# Altium schematic symbol library E_tactile_components.SCHLIB: 44 symbols
Pins are listed as number, name and electrical type; pins without a type are passive.

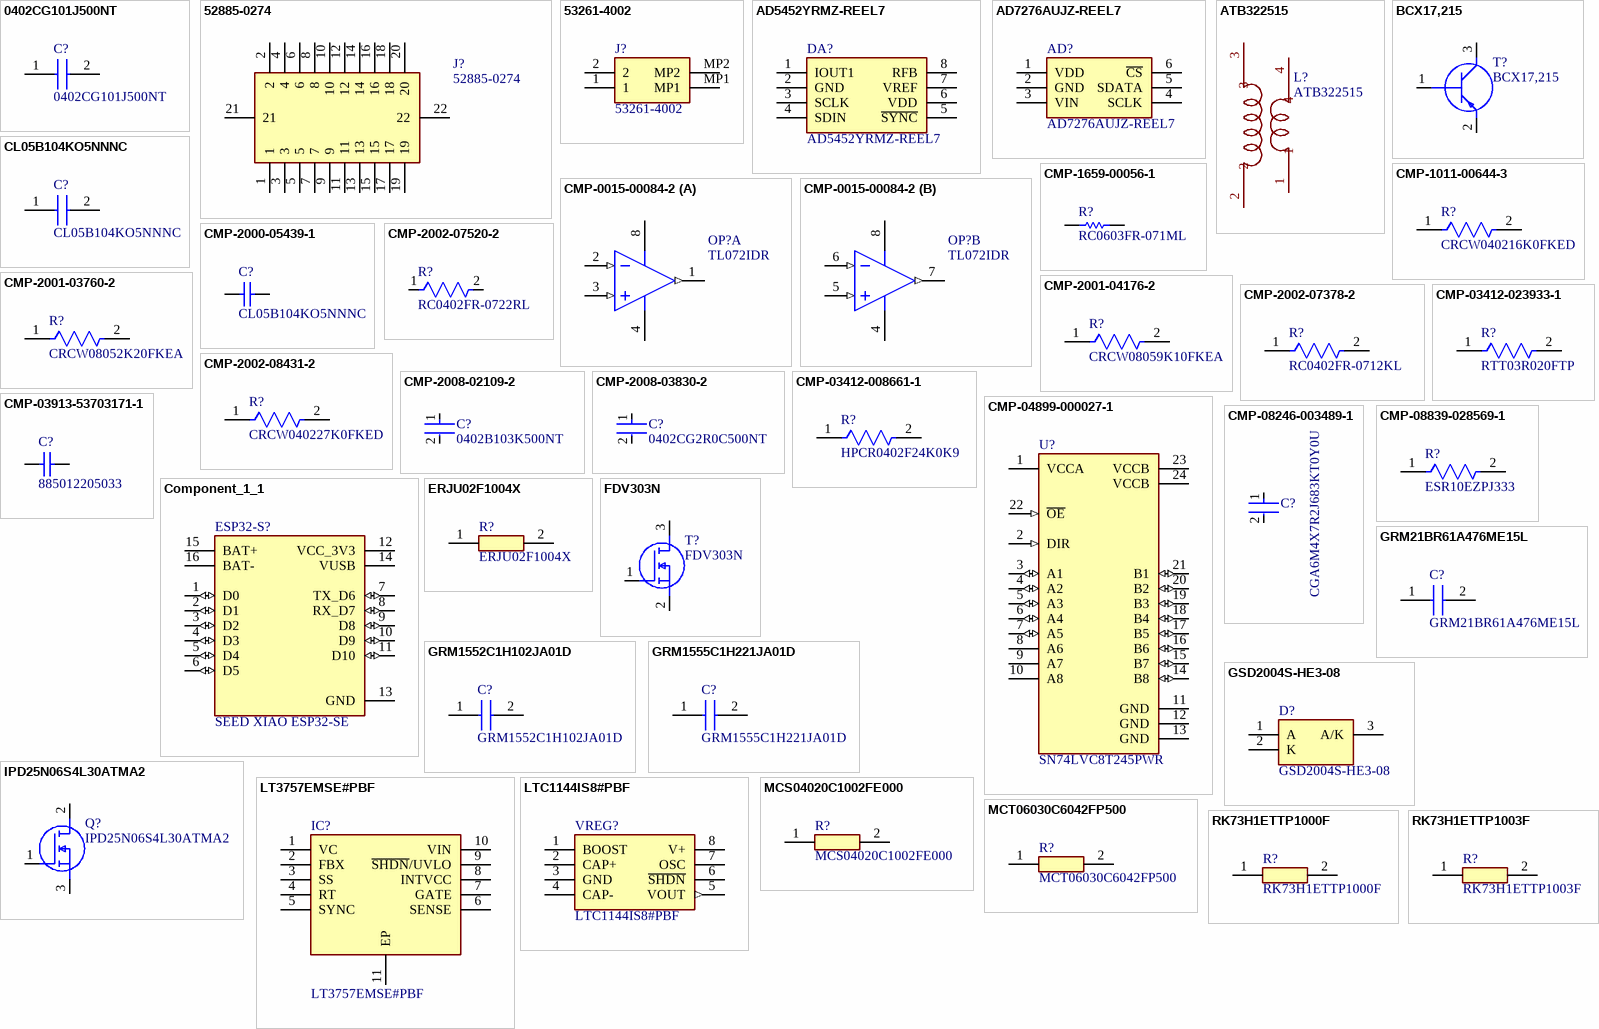
[diagram p0: symbols 0402CG101J500NT to RK73H1ETTP1003F]

## 0402CG101J500NT
designator C?
Capacitor; Manufacturer_Name: Guangdong Fenghua Advanced Tech; Datasheet Link: https://datasheet.lcsc.com/szlcsc/Guangdong-Fenghua-Advanced-Tech-0402CG101J500NT_C1546.pdf; Height: 0.55mm; Manufacturer_Part_Number: 0402CG101J500NT
footprint CAPC1005X55N
pins: 1, 2

## 52885-0274
designator J?
Connector; Manufacturer_Name: Molex; Datasheet Link: https://www.molex.com/webdocs/datasheets/pdf/en-us/0528850274_PCB_RECEPTACLES.pdf; Height: 4mm; Manufacturer_Part_Number: 52885-0274; Mouser Part Number: 538-52885-0274; Mouser Price/Stock: https://www.mouser.co.uk/ProductDetail/Molex/52885-0274?qs=%252BPJ3Ll1xQNYiQig4hWY5jQ%3D%3D
footprint 528850274
pins: 1, 2, 3, 4, 5, 6, 7, 8, 9, 10, 11, 12, 13, 14, 15, 16, 17, 18, 19, 20, 21, 22

## 53261-4002
designator J?
Connector; Manufacturer_Name: Molex; Datasheet Link: https://www.molex.com/content/dam/molex/molex-dot-com/products/automated/en-us/salesdrawingpdf/532/53261/532614002_sd.pdf; Height: 3.6mm; Manufacturer_Part_Number: 53261-4002; Mouser Part Number: 538-53261-4002; Mouser Price/Stock: https://www.mouser.co.uk/ProductDetail/Molex/53261-4002?qs=iLbezkQI%252BshUNmCEdUmJaQ%3D%3D
footprint 532614002
pins: 1, 2, MP1, MP2

## AD5452YRMZ-REEL7
designator DA?
Integrated Circuit; Manufacturer_Name: Analog Devices; Datasheet Link: https://componentsearchengine.com/Datasheets/1/AD5452YRMZ-REEL7.pdf; Height: 1.1mm; Manufacturer_Part_Number: AD5452YRMZ-REEL7; Mouser Part Number: 584-AD5452YRMZ-R7; Mouser Price/Stock: https://www.mouser.co.uk/ProductDetail/Analog-Devices/AD5452YRMZ-REEL7?qs=NmRFExCfTkHoityukWLALQ%3D%3D; Arrow Part Number: AD5452YRMZ-REEL7; Arrow Price/Stock: https://www.arrow.com/en/products/ad5452yrmz-reel7/analog-devices?region=nac
footprint SOP65P490X110-8N
pins: 1 IOUT1, 2 GND, 3 SCLK, 4 SDIN, 5 ~{SYNC}, 6 VDD, 7 VREF, 8 RFB

## AD7276AUJZ-REEL7
designator AD?
Integrated Circuit; Manufacturer_Name: Analog Devices; Datasheet Link: http://componentsearchengine.com/Datasheets/1/AD7276AUJZ-REEL7.pdf; Height: 1mm; Manufacturer_Part_Number: AD7276AUJZ-REEL7; Mouser Part Number: 584-AD7276AUJZ-R7; Mouser Price/Stock: https://www.mouser.co.uk/ProductDetail/Analog-Devices/AD7276AUJZ-REEL7?qs=NmRFExCfTkGcJMyUALbIIQ%3D%3D; Arrow Part Number: AD7276AUJZ-REEL7; Arrow Price/Stock: https://www.arrow.com/en/products/ad7276aujz-reel7/analog-devices
footprint SOT95P280X100-6N
pins: 1 VDD, 2 GND, 3 VIN, 4 SCLK, 5 SDATA, 6 ~{CS}

## ATB322515
designator L?
footprint ATB322515
pins: 1, 2, 3, 4

## BCX17,215
designator T?
Transistor BJT PNP; Manufacturer_Name: Nexperia; Datasheet Link: https://assets.nexperia.com/documents/data-sheet/BCX17_BCX18.pdf; Height: 1.1mm; Manufacturer_Part_Number: BCX17,215; Mouser Part Number: 771-BCX17-T/R; Mouser Price/Stock: https://www.mouser.co.uk/ProductDetail/Nexperia/BCX17215?qs=me8TqzrmIYWBJZCOuhvi%2Fg%3D%3D; Arrow Part Number: BCX17,215; Arrow Price/Stock: https://www.arrow.com/en/products/bcx17215/nexperia?region=nac
footprint SOT95P230X110-3N
pins: 1 B, 2 E, 3 C

## CL05B104KO5NNNC
designator C?
Capacitor; Manufacturer_Name: SAMSUNG; Datasheet Link: https://datasheet.datasheetarchive.com/originals/distributors/Datasheets-DGA10/2408147.pdf; Height: 0.55mm; Manufacturer_Part_Number: CL05B104KO5NNNC; Mouser Part Number: 187-CL05B104KO5NNNC; Mouser Price/Stock: https://www.mouser.co.uk/ProductDetail/Samsung-Electro-Mechanics/CL05B104KO5NNNC?qs=hqM3L16%252BxlfT2SKOuAUq6Q%3D%3D; Arrow Part Number: CL05B104KO5NNNC; Arrow Price/Stock: https://www.arrow.com/en/products/cl05b104ko5nnnc/samsung-electro-mechanics?utm_currency=USD&region=europe
footprint CAPC1005X55N
pins: 1, 2

## CMP-0015-00084-2
designator OP?, comment TL072IDR
Dual Low-Noise JFET-Input General-Purpose Operational Amplifier, 7 to 36 V, -40 to 85 degC, 8-pin SOIC (D8), Green (RoHS & no Sb/Br); Manufacturer: Texas Instruments; Number of Channels: 2; Rating: Catalog; IIB(Max)(pA): 200; Total Supply Voltage(Max)(+5V is 5, +/-5V is 10): 36; Vio (25C)(Max)(mV): 6; Iq per channel(Max)(mA): 2.5; Offset Drift(Typ)(uV/C): 18; Total Supply Voltage(Min)(+5V is 5, +/-5V is 10): 7; CMRR(Min)(dB): 75; Slew Rate(Typ)(V/us): 13; Sub Family: General Purpose Amplifier, High Supply Voltage Amplifier (>=30V); GBW(Typ)(MHz): 3; Code_JEDEC: MS-012; Eco-Plan: Green (RoHS & no Sb/Br); Mounting Technology: Surface Mount; ComponentLink3Description: Package Specification; PackageReference: D0008A; ComponentLink2URL: http://www.ti.com/lit/ds/symlink/tl072.pdf; ComponentLink1Description: Manufacturer URL; ComponentLink3URL: http://www.ti.com/litv/pdf/msoi002j; ComponentLink2Description: Datasheet; DatasheetVersion: SLOS080J; ComponentLink1URL: http://www.ti.com/; PackageDescription: 8-Pin Plastic Small Outline, Body 4.9 x 3.9 mm, Pitch 1.27 mm; PackageVersion: 4040047-3/M, 06/2011; Vn at 1kHz(Typ)(nV/rtHz): 18; PartNumber: TL072IDR
footprint D0008A_L (SOIC, 8-Leads, Body 5x4mm, Pitch 1.27mm, IPC High Density)
footprint D0008A_M (SOIC, 8-Leads, Body 5x4mm, Pitch 1.27mm, IPC Low Density)
footprint D0008A_N (SOIC, 8-Leads, Body 5x4mm, Pitch 1.27mm, IPC Medium Density)
pins on every part: 4 VCC-, 8 VCC+ (power)
part A pins: 1 OUT1 (out), 2 IN1- (in), 3 IN1+ (in)
part B pins: 5 IN2+ (in), 6 IN2- (in), 7 OUT2 (out)

## CMP-1011-00644-3
designator R?, comment CRCW040216K0FKED
RES Thick Film, 16kΩ, 1%, 0.063W, 100ppm/°C, 0402; Voltage Rating: 50V; Max Power Dissipation: 63mW; Resistance: 16kR; Military Standard: Not; Contact Plating: Tin; Mount: Surface Mount; Termination: SMD/SMT; Length: 1mm; Composition: Thick Film; Package Quantity: 10; Case Code (Imperial): 0402; Min Operating Temperature: -55°C; Depth: 0.5mm; Case/Package: 0402; Power Rating: 63mW; Radiation Hardening: No; Lead Free: Lead Free; Voltage Rating (DC): 50V; Packaging: Tape and Reel; Height: 0.35mm; Max Operating Temperature: 155°C; Width: 0.02inch; Number of Terminations: 2; Tolerance: 1%; Weight: 2.3E-05oz; Temperature Coefficient: 100ppm/°C; Number of Pins: 2; Features: Automotive AEC-Q200; Case Code (Metric): 1005
footprint FP-CRCW0402-e3-IPC_C
footprint FP-CRCW0402-e3-MFG
footprint FP-CRCW0402-e3-IPC_A
footprint FP-CRCW0402-e3-IPC_B
pins: 1, 2

## CMP-1659-00056-1
designator R?, comment RC0603FR-071ML
Chip Resistor, 1 MOhm, +/- 1%, 100 mW, -55 to 155 degC, 0603 (1608 Metric), RoHS, Tape and Reel; Voltage Rating (DC): 25 V; Tolerance: 20%; Case\Package: Radial; Capacitance: 1 mF; Min Operating Temperature: -40 degC; PackageDescription: 2-Pin Surface Mount Device, Body 1.6 x 0.8 mm; ComponentLink1Description: Manufacturer URL; Radiation Hardening: No; DatasheetVersion: Rev. 4, 02/2016; REACH SVHC: No SVHC; Length: 20 mm; Max Operating Temperature: 85 degC; Diameter: 10 mm; Packaging: Bulk; Package Quantity: 200; PackageReference: 0603; Mount: Through Hole; ComponentLink1URL: http://www.yageo.com/; ComponentLink2URL: http://www.yageo.com/documents/recent/PYu-RC_Group_51_RoHS_L_04.pdf; ComponentLink2Description: Datasheet; Width: 0 inch; Lead Pitch: 5 mm; RoHSCompliant: true; Voltage Rating: 25 V; Height: 20 mm
footprint RESC1608X55X25LL10T15 (Chip Resistor, 2-Leads, Body 1.70x0.90mm, IPC High Density)
footprint RESC1608X55X25ML10T15 (Chip Resistor, 2-Leads, Body 1.70x0.90mm, IPC Low Density)
footprint RESC1608X55X25NL10T15 (Chip Resistor, 2-Leads, Body 1.70x0.90mm, IPC Medium Density)
pins: 1, 2

## CMP-2000-05439-1
designator C?, comment CL05B104KO5NNNC
Chip Capacitor, 100 nF, +/- 10%, 16 V, -55 to 125 degC, 0402 (1005 Metric), RoHS, Tape and Reel; Manufacturer: Samsung Electro-Mechanics; Capacitance: 100000pF; Dielectric: X7R; Rated Voltage: 16V; Case Size/Dimension: 0402; Tolerance (%): ±10%; Manufacturer URL: http://www.samsungsem.com/global/index.jsp; Datasheet URL: https://datasheet.ciiva.com/29198/458718-da-01-en-vs-kondensator-0402-29198423.pdf; Datasheet Version: Nov-10
footprint CAPC1050X55X23ML05T13 (Chip Capacitor, 2-Leads, Body 1.05x0.55mm, IPC Low Density)
footprint CAPC1050X55X23NL05T13 (Chip Capacitor, 2-Leads, Body 1.05x0.55mm, IPC Medium Density)
footprint CAPC1050X55X23LL05T13 (Chip Capacitor, 2-Leads, Body 1.05x0.55mm, IPC High Density)
pins: 1, 2

## CMP-2001-03760-2
designator R?, comment CRCW08052K20FKEA
RES Thick Film, 2.2kΩ, 1%, 0.125W, 100ppm/°C, 0805; Voltage Rating (DC): 150V; Max Power Dissipation: 125mW; Resistance: 2.2kR; Case/Package: 0805; Width: 1.25mm; Voltage Rating: 150V; Composition: Thick Film; Power Rating: 125mW; Packaging: Tape and Reel; Min Operating Temperature: -55°C; Contact Plating: Tin; Tolerance: 1%; Military Standard: Not; Case Code (Metric): 2012; Radiation Hardening: No; Termination: SMD/SMT; Lead Free: Lead Free; Case Code (Imperial): 0805; Max Operating Temperature: 155°C; Depth: 1.25mm; Weight: 0.000194oz; Number of Terminations: 2; Length: 2mm; Package Quantity: 10; Temperature Coefficient: 100ppm/°C; Features: Automotive AEC-Q200; Height: 0.45mm
footprint FP-CRCW0805-e3-IPC_B
footprint FP-CRCW0805-e3-IPC_C
footprint FP-CRCW0805-e3-IPC_A
footprint FP-CRCW0805-e3-MFG
pins: 1, 2

## CMP-2001-04176-2
designator R?, comment CRCW08059K10FKEA
RES Thick Film, 9.1kΩ, 1%, 0.125W, 100ppm/°C, 0805; Max Power Dissipation: 125mW; Voltage Rating (DC): 150V; Resistance: 9.1kR; Max Operating Temperature: 155°C; Termination: SMD/SMT; Height: 0.45mm; Package Quantity: 10; Radiation Hardening: No; Features: Automotive AEC-Q200; Depth: 1.25mm; Lead Free: Lead Free; Composition: Thick Film; Case Code (Metric): 2012; Tolerance: 1%; Military Standard: Not; Min Operating Temperature: -55°C; Case/Package: 0805; Length: 2mm; Case Code (Imperial): 0805; Voltage Rating: 150V; Contact Plating: Tin; Packaging: Tape and Reel; Number of Terminations: 2; Power Rating: 125mW; Width: 0.049inch; Temperature Coefficient: 100ppm/°C; Weight: 0.000194oz
footprint FP-CRCW0805-e3-IPC_C
footprint FP-CRCW0805-e3-IPC_A
footprint FP-CRCW0805-e3-MFG
footprint FP-CRCW0805-e3-IPC_B
pins: 1, 2

## CMP-2002-07378-2
designator R?, comment RC0402FR-0712KL
RES SMD 12K OHM 1% 1/16W 0402; Power Rating: 62.5mW; Voltage Rating: 50V; Resistance: 12kR; Max Power Dissipation: 63mW; Temperature Coefficient: 100ppm/°C; Construction: Rectangular; Case Code (Metric): 1005; Package Quantity: 1; Weight: 2.3E-05oz; RoHS Compliant: Yes; Packaging: Tape and Reel; Case Code (Imperial): 0402; Military Standard: Not; Min Operating Temperature: -55°C; Depth: 0.5mm; Length: 1mm; Width: 0.02inch; Termination: SMD/SMT; Lead Free: Lead Free; Tolerance: 1%; REACH SVHC: No SVHC; Size Code: 0402; Resistance Tolerance: 1%; Series: RC; Max Operating Temperature: 155°C; Height: 0.016inch; Features: Moisture Resistant; Number of Terminations: 2; Case/Package: 0402; Resistor Type: Thick Film
footprint FP-RC0402-0_4-IPC_C
footprint FP-RC0402-0_4-MFG
footprint FP-RC0402-0_4-IPC_B
footprint FP-RC0402-0_4-IPC_A
pins: 1, 2

## CMP-2002-07520-2
designator R?, comment RC0402FR-0722RL
Tolerance: 1%; Power Rating: 63mW; Voltage Rating: 50V; Temperature Coefficient: 100ppm/°C; Resistance: 22Ω; Termination: SMD/SMT; Depth: 500µm; Packaging: Tape & Reel; Height: 400µm; Width: 500µm; Case Code (Imperial): 0402; Length: 1mm; Schedule B: 8533210045, 8533210045; Case/Package: 0402; Max Operating Temperature: 155°C; Min Operating Temperature: -55°C; REACH SVHC: Unknown; RoHS: Compliant; Military Standard: Not; Voltage Rating (DC): 50V; Lead Free: Lead Free; Voltage Rating (AC): 50V; Number of Pins: 2; Composition: Thick Film
footprint FP-RC0402-0_4-MFG
footprint FP-RC0402-0_4-IPC_A
footprint FP-RC0402-0_4-IPC_B
footprint FP-RC0402-0_4-IPC_C
pins: 1, 2

## CMP-2002-08431-2
designator R?, comment CRCW040227K0FKED
RES Thick Film, 27kΩ, 1%, 0.063W, 100ppm/°C, 0402; Resistance: 27kR; Power Rating: 63mW; Voltage Rating: 50V; Military Standard: Not; Height: 0.35mm; Packaging: Tape and Reel; Case/Package: 0402; Temperature Coefficient: 100ppm/°C; Composition: Thick Film; Mount: Surface Mount; Features: Automotive AEC-Q200; Tolerance: 1%; Contact Plating: Tin; Radiation Hardening: No; Depth: 0.5mm; Termination: SMD/SMT; Width: 0.02inch; Package Quantity: 10; Min Operating Temperature: -55°C; Case Code (Metric): 1005; Lead Free: Lead Free; Voltage Rating (DC): 50V; Max Operating Temperature: 155°C; Weight: 2.3E-05oz; Case Code (Imperial): 0402; Length: 1mm; Number of Terminations: 2; Max Power Dissipation: 63mW; Number of Pins: 2
footprint FP-CRCW0402-e3-IPC_A
footprint FP-CRCW0402-e3-MFG
footprint FP-CRCW0402-e3-IPC_C
footprint FP-CRCW0402-e3-IPC_B
pins: 1, 2

## CMP-2008-02109-2
designator C?, comment 0402B103K500NT
CAP CER 10000PF 50V X7R 0402; Manufacturer: LCSC; Temperature Coefficient: 15%; Tolerance: 0.1; Value: 10,000 pF; Material: Ceramic; Device Class L3: Ceramic Capacitors; Digikey Description: CAP CER 10000PF 50V X7R 0402; Height: 0.55mm; Manufacturer Part Number: 0402B103K500NT; Temperature Range Low: -55°C; Package: C0402-BB; ComponentLink2URL: https://content.kemet.com/datasheets/KEM_C1002_X7R_SMD.pdf; Lead Free: Yes; Mouser Description: Capacitor; Ceramic; Cap; .010uF; Tol 10%; SMT; Vol-Rtg 50V; X7R; Tape and Reel; Ipc Land Pattern Name: CAPC10050X50; Temperature Range High: +125°C; Device Class L1: Passive Components; Category: Cap; Octopart: https://octopart.com/c0402c103k5ractu-kemet-95985; Temperature Characteristic: X7R; Automotive: No; Device Class L2: Capacitors; ComponentLink2Description: Datasheet; Voltage Rating: 50 V; Capacitance: 10,000 pF; RoHS: TRUE; Temperature: -55°C to +125°C
footprint FP-C0402-BB-MFG
footprint FP-C0402-BB-IPC_C
footprint FP-C0402-BB-IPC_B
footprint FP-C0402-BB-IPC_A
pins: 1, 2

## CMP-2008-03830-2
designator C?, comment 0402CG2R0C500NT
Multi-Layer Ceramic Capacitor 2pF C0G  ±0.1pF 0402 Paper T/R; Voltage Rating: 50V; Mount: Surface Mount; REACH SVHC: No SVHC; Lead Pitch: 0.3mm; Length: 1mm; Lead Free: Lead Free; Radiation Hardening: No; Depth: 0.5mm; Thickness: 0.022inch; Number of Pins: 2; Height: 0.5mm; Min Operating Temperature: -55°C; Width: 0.5mm; Packaging: Tape and Reel; Case Code (Metric): 1005; Capacitance: 2pF; Voltage Rating (DC): 50V; Package Quantity: 1; Max Operating Temperature: 125°C; Case/Package: 0402; Case Code (Imperial): 0402; Dielectric: C0G; Termination: SMD/SMT
footprint FP-GJM155-0_05-IPC_C
footprint FP-GJM155-0_05-MFG
footprint FP-GJM155-0_05-IPC_B
footprint FP-GJM155-0_05-IPC_A
pins: 1, 2

## CMP-03412-008661-1
designator R?, comment HPCR0402F24K0K9
RES SMD 12K OHM 1% 1/16W 0402; Manufacturer: Yageo; Temperature Coefficient: 50 ppm/°C; Voltage Rating: 50V; Tolerance: 0.01; Power Rating: 0.063W; Resistance: 24KΩ; Value: 12KΩ; ComponentLink2Description: Datasheet; Height: 0.35mm; Lead Free: Yes; Package: RT0402; Series: RT; RoHS: TRUE; Manufacturer Part Number: HPCR0402F24K0K9; ComponentLink2URL: http://www.yageo.com/documents/recent/PYu-RT_1-to-0.01_RoHS_L_9.pdf; Temperature Range Low: -55°C; Device Class L1: Passive Components; Temperature Range High: +155°C; Automotive: No; Digikey Description: RES SMD 14K OHM 1% 1/16W 0402; Ipc Land Pattern Name: RESC10050X30; Octopart: https://octopart.com/rt0402fre0714kl-yageo-1378200; Category: Res; Temperature: -55°C to +155°C; Footprint Url: http://www.yageo.com/exep/pages/download/literatures/PYu-R_Mount_10.pdf; Device Class L3: Chip SMD Resistors; Composition: Thin Film; Device Class L2: Resistors
footprint FP-RT0402-MFG
footprint FP-RT0402-IPC_C
footprint FP-RT0402-IPC_B
footprint FP-RT0402-IPC_A
pins: 1, 2

## CMP-03412-023933-1
designator R?, comment RTT03R020FTP
METAL CURRENT SENSOR 0402 1% 150; Manufacturer: Yageo; Value: 20mΩ; Temperature Coefficient: 150ppm/°C; Power Rating: 0.167W; Series: PA0402; Category: Res; RoHS: TRUE; Ipc Land Pattern Name: RESC10055X40; Composition: Metal Element; Manufacturer Part Number: RTT03R020FTP; Temperature Range High: +125°C; Device Class L1: Passive Components; Package: PA0402; Height: 0.4mm; Temperature: -55°C to +125°C; Device Class L3: Chip SMD Resistors; Tolerance: 1%; Automotive: No; Lead Free: Yes; Digikey Description: METAL CURRENT SENSOR 0402 1% 150; Octopart: https://octopart.com/pa0402frl7t0r02l-yageo-86729964; Resistance: 20mΩ; Temperature Range Low: -55°C; ComponentLink2URL: http://www.yageo.com/documents/recent/PYu-PA0402_L_51_RoHS_0.pdf; Device Class L2: Resistors; ComponentLink2Description: Datasheet
footprint FP-PA0402-MFG
footprint FP-PA0402-IPC_C
footprint FP-PA0402-IPC_B
footprint FP-PA0402-IPC_A
pins: 1, 2

## CMP-03913-53703171-1
designator C?, comment 885012205033
885012205033 Ceramic Capacitor 22nF, 16VDC, 0402, ±10 %; NexarPartId: 53703171; Voltage Rating: 16V; Tolerance: 10%; Insulation Resistance: 10GΩ; Capacitance: 22nF; Case Code (Imperial): 0402; Case Code (Metric): 1005; Mount: Surface Mount; Case/Package: 0402; Min Operating Temperature: -55°C; Height: 500µm; RoHS: Compliant; Packaging: Tape & Reel (TR); Length: 1mm; Thickness: 558.8µm; Max Operating Temperature: 125°C; Width: 500µm
footprint WCAP-CSGP_0402_L1W0.5H0.5 (Ceramic Capacitor 1pF, 10VDC, 0402, ±0.5 pF)
pins: 1, 2

## CMP-04899-000027-1
designator U?, comment SN74LVC8T245PWR
IC TRNSLTR BIDIRECTIONAL 24TSSOP; Manufacturer: Texas Instruments; V B Min: 1.65V; V B Max: 5.5V; Number Of Outputs: 8; Standoff Height: 0.05mm; Nominal Supply Current: 25uA; Number Of Circuits: 1; Propagation Delay: 4.3ns; Logic Function Desc: Non-Inverting; Ambient Temperature Range High: +85°C; Temperature Range Low: -40°C; Category: IC; Min Supply Voltage: 1.65V; Device Class L2: Logic ICs; Digikey Description: IC TRNSLTR BIDIRECTIONAL 24TSSOP; ComponentLink2Description: Datasheet; V A Min: 1.65V; Height: 1.2mm; Device Class L1: Integrated Circuits (ICs); Manufacturer Part Number: SN74LVC8T245PWR; Ipc Land Pattern Name: SOP65P640X120-24; Lead Free: Yes; Device Class L3: Voltage Level Shifters; Octopart: https://octopart.com/sn74lvc8t245pwr-texas+instruments-517164; RoHS: TRUE; Ambient Temperature Range Low: -40°C; Number Of Inputs: 8; Automotive: No; V A Max: 5.5V; Mouser Description: Translation - Voltage Levels 8-Bit Dual-Supply Bus Xcvr; Temperature Range High: +85°C; ComponentLink2URL: http://www.ti.com/lit/ds/symlink/sn74lvc8t245.pdf; Temperature: -40°C to +85°C; Package: PW0024A; Max Supply Voltage: 5.5V
footprint FP-PW0024A-MFG
footprint FP-PW0024A-IPC_C
footprint FP-PW0024A-IPC_B
footprint FP-PW0024A-IPC_A
pins: 1 VCCA (power), 2 DIR (in), 3 A1 (io), 4 A2 (io), 5 A3 (io), 6 A4 (io), 7 A5 (io), 8 A6, 9 A7, 10 A8, 11 GND (power), 12 GND (power), 13 GND (power), 14 B8 (io), 15 B7 (io), 16 B6 (io), 17 B5 (io), 18 B4 (io), 19 B3 (io), 20 B2 (io), 21 B1 (io), 22 ~{OE} (in), 23 VCCB (power), 24 VCCB (power)

## CMP-08246-003489-1
designator C?, comment CGA6M4X7R2J683KT0Y0U
Multilayer Ceramic Capacitors 68nF ±10% 630V X7R SMD 1210; RoHS Compliant: Yes; Number of Pins: 3225; Dielectric: X7R; Width: 0.098inch; Capacitance: 68nF; Termination: SMD/SMT; Voltage Rating: 630V; Height: 2mm; Max Operating Temperature: 125°C; Lead Free: Lead Free; Mount: Surface Mount; Voltage Rating (DC): 630V; Length: 3.2mm; Resistor Type: Ceramic; Packaging: Tape and Reel; Thickness: 0.087inch; Case Code (Metric): 3225; Series: C; Package Quantity: 1; Weight: 0.000564oz; Tolerance: 10%; Min Operating Temperature: -55°C; Voltage: 630V; Case/Package: 1210; Depth: 2.5mm; Case Code (Imperial): 1210
footprint FP-C3225-200-0_4-IPC_B
footprint FP-C3225-200-0_4-MFG
footprint FP-C3225-200-0_4-IPC_A
footprint FP-C3225-200-0_4-IPC_C
pins: 1, 2

## CMP-08839-028569-1
designator R?, comment ESR10EZPJ333
33kΩ ±5% 0.4W 0805 Anti-Surge Chip Resistor AEC-Q200; Resistance: 33kR; Max Power Dissipation: 400mW; Temperature Coefficient: 200ppm/°C; Packaging: Tape and Reel; Number of Terminations: 2; Case Code (Imperial): 0805; Width: 0.049inch; Case/Package: 0805; Length: 0.079inch; Max Operating Temperature: 155°C; Case Code (Metric): 2012; RoHS Compliant: Yes; Min Operating Temperature: -55°C; Series: ESR; Height: 0.026inch; Resistor Type: Thick Film; Package Quantity: 1; Features: Automotive AEC-Q200; Tolerance: 5%
footprint FP-ESR10-IPC_A
footprint FP-ESR10-IPC_B
footprint FP-ESR10-MFG
footprint FP-ESR10-IPC_C
pins: 1, 2

## Component_1_1
designator ESP32-S?, comment SEED XIAO ESP32-SE
footprint PCBComponent_1
pins: 1 D0 (io), 2 D1 (io), 3 D2 (io), 4 D3 (io), 5 D4 (io), 6 D5 (io), 7 TX_D6 (io), 8 RX_D7 (io), 9 D8 (io), 10 D9 (io), 11 D10 (io), 12 VCC_3V3 (power), 13 GND (power), 14 VUSB (power), 15 BAT+, 16 BAT-

## ERJU02F1004X
designator R?
Resistor; Manufacturer_Name: Panasonic; Datasheet Link: https://industrial.panasonic.com/cdbs/www-data/pdf/RDP0000/AOA0000C334.pdf; Height: 0.4mm; Manufacturer_Part_Number: ERJU02F1004X
footprint ERJS02_U02_(0402)
pins: 1, 2

## FDV303N
designator T?
MOSFET (N-Channel); Manufacturer_Name: onsemi; Datasheet Link: https://www.onsemi.com/pub/Collateral/FDV303N-D.PDF; Height: 1.11mm; Manufacturer_Part_Number: FDV303N; Mouser Part Number: 512-FDV303N; Mouser Price/Stock: https://www.mouser.co.uk/ProductDetail/onsemi-Fairchild/FDV303N?qs=FOlmdCx%252BAA1IyXspysHTkA%3D%3D; Arrow Part Number: FDV303N; Arrow Price/Stock: https://www.arrow.com/en/products/fdv303n/on-semiconductor?utm_currency=USD&region=europe
footprint SOT96P237X111-3N
pins: 1 G, 2 S, 3 D

## GRM21BR61A476ME15L
designator C?
Capacitor; Manufacturer_Name: Murata Electronics; Datasheet Link: https://search.murata.co.jp/Ceramy/image/img/A01X/G101/ENG/GRM21BR61A476ME15-01A.pdf; Height: 1.45mm; Manufacturer_Part_Number: GRM21BR61A476ME15L; Mouser Part Number: 81-GRM21BR61A476ME5L; Mouser Price/Stock: https://www.mouser.co.uk/ProductDetail/Murata-Electronics/GRM21BR61A476ME15L?qs=hNud%2FORuBR2%2FEB7WUpdltg%3D%3D; Arrow Part Number: GRM21BR61A476ME15L; Arrow Price/Stock: https://www.arrow.com/en/products/grm21br61a476me15l/murata-manufacturing?utm_currency=USD&region=nac
footprint CAPC2012X145N
pins: 1, 2

## GRM1552C1H102JA01D
designator C?
Capacitor; Manufacturer_Name: Murata Electronics; Datasheet Link: https://search.murata.co.jp/Ceramy/image/img/A01X/G101/ENG/GRM1552C1H102JA01-01A.pdf; Height: 0.7mm; Manufacturer_Part_Number: GRM1552C1H102JA01D; Mouser Part Number: N/A; Mouser Price/Stock: https://www.mouser.co.uk/ProductDetail/Murata-Electronics/GRM1552C1H102JA01D?qs=UOvNgVTuGCqGiG7fJ8%252BtBQ%3D%3D
footprint CAPC1005X70N
pins: 1, 2

## GRM1555C1H221JA01D
designator C?
Capacitor; Manufacturer_Name: Murata Electronics; Datasheet Link: https://search.murata.co.jp/Ceramy/image/img/A01X/G101/ENG/GRM1555C1H221JA01-01A.pdf; Height: 0.7mm; Manufacturer_Part_Number: GRM1555C1H221JA01D; Mouser Part Number: 81-GRM1555C1H221JA01; Mouser Price/Stock: https://www.mouser.co.uk/ProductDetail/Murata-Electronics/GRM1555C1H221JA01D?qs=AflYu6BMgmkFaPorbrBIOQ%3D%3D; Arrow Part Number: GRM1555C1H221JA01D; Arrow Price/Stock: https://www.arrow.com/en/products/grm1555c1h221ja01d/murata-manufacturing
footprint CAPC1005X70N
pins: 1, 2

## GSD2004S-HE3-08
designator D?
Diode; Manufacturer_Name: Vishay; Datasheet Link: https://eagle.componentsearchengine.com/Datasheets/1/GSD2004S-HE3-08.pdf; Height: 1.15mm; Manufacturer_Part_Number: GSD2004S-HE3-08; Mouser Part Number: 78-GSD2004S-HE3-08; Mouser Price/Stock: https://www.mouser.co.uk/ProductDetail/Vishay-Semiconductors/GSD2004S-HE3-08?qs=uS%252BVSIFnvp5GJDCoADy1cg%3D%3D; Arrow Part Number: GSD2004S-HE3-08; Arrow Price/Stock: https://www.arrow.com/en/products/gsd2004s-he3-08/vishay?region=nac
footprint SOT95P248X115-3N
pins: 1 A, 2 K, 3 A/K

## IPD25N06S4L30ATMA2
designator Q?
MOSFET (N-Channel); Manufacturer_Name: Infineon; Datasheet Link: https://www.infineon.com/dgdl/Infineon-IPD25N06S4L-30-DS-v01_01-EN.pdf?fileId=db3a30431ff98815012038898f7b0caa; Height: 2.5mm; Manufacturer_Part_Number: IPD25N06S4L30ATMA2; Mouser Part Number: 726-IPD25N06S4L30ATM; Mouser Price/Stock: https://www.mouser.co.uk/ProductDetail/Infineon-Technologies/IPD25N06S4L30ATMA2?qs=OwbwYO03UsKv1XP00b%252BqYQ%3D%3D; Arrow Part Number: IPD25N06S4L30ATMA2; Arrow Price/Stock: https://www.arrow.com/en/products/ipd25n06s4l30atma2/infineon-technologies-ag?region=nac
footprint IPD25N06S4L30ATMA2
pins: 1 G, 2 D, 3 S

## LT3757EMSE#PBF
designator IC?
Integrated Circuit; Manufacturer_Name: Analog Devices; Datasheet Link: https://datasheet.datasheetarchive.com/originals/distributors/Datasheets-SFU4/DSASF4000-3305.pdf; Height: 1.1mm; Manufacturer_Part_Number: LT3757EMSE#PBF; Mouser Part Number: 584-LT3757EMSE#PBF; Mouser Price/Stock: https://www.mouser.co.uk/ProductDetail/Analog-Devices-Linear-Technology/LT3757EMSEPBF?qs=hVkxg5c3xu8twEREQWNP2A%3D%3D; Arrow Part Number: LT3757EMSE#PBF; Arrow Price/Stock: https://www.arrow.com/en/products/lt3757emsepbf/analog-devices?region=europe
footprint SOP50P490X110-11N
pins: 1 VC, 2 FBX, 3 SS, 4 RT, 5 SYNC, 6 SENSE, 7 GATE, 8 INTVCC, 9 ~{SHDN}/UVLO, 10 VIN, 11 EP

## LTC1144IS8#PBF
designator VREG?
Integrated Circuit; Manufacturer_Name: Analog Devices; Datasheet Link: http://cds.linear.com/docs/en/datasheet/1144fa.pdf; Height: 1.752mm; Manufacturer_Part_Number: LTC1144IS8#PBF; Mouser Part Number: 584-LTC1144IS8#PBF; Mouser Price/Stock: https://www.mouser.co.uk/ProductDetail/Analog-Devices/LTC1144IS8PBF?qs=hVkxg5c3xu%2FkbkSDzzDboA%3D%3D; Arrow Part Number: LTC1144IS8#PBF; Arrow Price/Stock: https://www.arrow.com/en/products/ltc1144is8pbf/analog-devices?utm_currency=USD&region=europe
footprint SOIC127P599X175-8N
pins: 1 BOOST, 2 CAP+, 3 GND (power), 4 CAP-, 5 VOUT (out), 6 ~{SHDN}, 7 OSC, 8 V+

## MCS04020C1002FE000
designator R?
Resistor; Manufacturer_Name: Vishay; Datasheet Link: http://www.vishay.com/docs/28705/mcx0x0xpro.pdf; Height: 0.37mm; Manufacturer_Part_Number: MCS04020C1002FE000; Mouser Part Number: 594-MCS04020C1002FE0; Mouser Price/Stock: https://www.mouser.co.uk/ProductDetail/Vishay-Beyschlag/MCS04020C1002FE000?qs=7ZE6F4QMOBZ3EZwk%252BYP9Dg%3D%3D; Arrow Part Number: MCS04020C1002FE000; Arrow Price/Stock: https://www.arrow.com/en/products/mcs04020c1002fe000/vishay?utm_currency=USD&region=nac
footprint RESC1005X37N
pins: 1, 2

## MCT06030C6042FP500
designator R?
Resistor; Manufacturer_Name: Vishay; Datasheet Link: http://www.vishay.com/docs/28705/mcx0x0xpro.pdf; Height: 0.55mm; Manufacturer_Part_Number: MCT06030C6042FP500
footprint RESC1608X55N
pins: 1, 2

## RK73H1ETTP1000F
designator R?
Resistor; Manufacturer_Name: KOA Speer; Datasheet Link: http://www.koaspeer.com/catimages/Products/RK73-RT/RK73-RT.pdf; Height: 0.4mm; Manufacturer_Part_Number: RK73H1ETTP1000F; Mouser Part Number: 660-RK73H1ETTP1000F; Mouser Price/Stock: https://www.mouser.co.uk/ProductDetail/KOA-Speer/RK73H1ETTP1000F?qs=VhCg8p3QXBZstDOVIJ3D7A%3D%3D; Arrow Part Number: RK73H1ETTP1000F; Arrow Price/Stock: https://www.arrow.com/en/products/rk73h1ettp1000f/koa-speer-electronics?region=nac
footprint RESC1005X40N
pins: 1, 2

## RK73H1ETTP1003F
designator R?
Resistor; Manufacturer_Name: KOA Speer; Datasheet Link: http://www.koaspeer.com/catimages/Products/RK73-RT/RK73-RT.pdf; Height: 0.4mm; Manufacturer_Part_Number: RK73H1ETTP1003F; Mouser Part Number: 660-RK73H1ETTP1003F; Mouser Price/Stock: https://www.mouser.co.uk/ProductDetail/KOA-Speer/RK73H1ETTP1003F?qs=b1MjUb3%252BcaVl%2FZYcKgjmuQ%3D%3D; Arrow Part Number: RK73H1ETTP1003F; Arrow Price/Stock: https://www.arrow.com/en/products/rk73h1ettp1003f/koa-speer-electronics?region=nac
footprint RESC1005X40N
pins: 1, 2

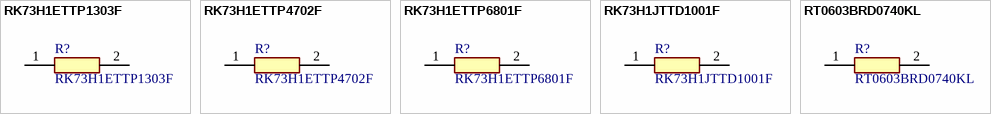
[diagram p1: symbols RK73H1ETTP1303F to RT0603BRD0740KL]

## RK73H1ETTP1303F
designator R?
Resistor; Manufacturer_Name: KOA Speer; Datasheet Link: http://www.koaspeer.com/catimages/Products/RK73-RT/RK73-RT.pdf; Height: 0.4mm; Manufacturer_Part_Number: RK73H1ETTP1303F; Mouser Part Number: 660-RK73H1ETTP1303F; Mouser Price/Stock: https://www.mouser.co.uk/ProductDetail/KOA-Speer/RK73H1ETTP1303F?qs=nWTjSGqwIiQKngPNRzbM%2FA%3D%3D
footprint RESC1005X40N
pins: 1, 2

## RK73H1ETTP4702F
designator R?
Resistor; Manufacturer_Name: KOA Speer; Datasheet Link: http://www.koaspeer.com/catimages/Products/RK73-RT/RK73-RT.pdf; Height: 0.4mm; Manufacturer_Part_Number: RK73H1ETTP4702F; Mouser Part Number: 660-RK73H1ETTP4702F; Mouser Price/Stock: https://www.mouser.co.uk/ProductDetail/KOA-Speer/RK73H1ETTP4702F?qs=VhCg8p3QXBbdph5DclKeLw%3D%3D; Arrow Part Number: RK73H1ETTP4702F; Arrow Price/Stock: https://www.arrow.com/en/products/rk73h1ettp4702f/koa-speer-electronics
footprint RESC1005X40N
pins: 1, 2

## RK73H1ETTP6801F
designator R?
Resistor; Manufacturer_Name: KOA Speer; Datasheet Link: http://www.koaspeer.com/catimages/Products/RK73-RT/RK73-RT.pdf; Height: 0.4mm; Manufacturer_Part_Number: RK73H1ETTP6801F; Mouser Part Number: 660-RK73H1ETTP6801F; Mouser Price/Stock: https://www.mouser.com/Search/Refine.aspx?Keyword=660-RK73H1ETTP6801F; Arrow Part Number: RK73H1ETTP6801F; Arrow Price/Stock: https://www.arrow.com/en/products/rk73h1ettp6801f/koa-speer-electronics
footprint RESC1005X40N
pins: 1, 2

## RK73H1JTTD1001F
designator R?
Resistor; Manufacturer_Name: KOA Speer; Datasheet Link: http://www.koaspeer.com/catimages/Products/RK73-RT/RK73-RT.pdf; Height: 0.55mm; Manufacturer_Part_Number: RK73H1JTTD1001F; Mouser Part Number: 660-RK73H1JTTD1001F; Mouser Price/Stock: https://www.mouser.co.uk/ProductDetail/KOA-Speer/RK73H1JTTD1001F?qs=LDe0C6QMEhjxBAtFZK22kg%3D%3D; Arrow Part Number: RK73H1JTTD1001F; Arrow Price/Stock: https://www.arrow.com/en/products/rk73h1jttd1001f/koa-speer-electronics?utm_currency=USD&region=nac
footprint RESC1608X55N
pins: 1, 2

## RT0603BRD0740KL
designator R?
Resistor; Manufacturer_Name: YAGEO; Datasheet Link: https://www.yageo.com/upload/media/product/app/datasheet/rchip/pyu-rt_1-to-0.01_rohs_l.pdf; Height: 0.55mm; Manufacturer_Part_Number: RT0603BRD0740KL; Mouser Part Number: 603-RT0603BRD0740KL; Mouser Price/Stock: https://www.mouser.co.uk/ProductDetail/YAGEO/RT0603BRD0740KL?qs=gt1LBUVyoHlX7zH8R4KgIw%3D%3D; Arrow Part Number: RT0603BRD0740KL; Arrow Price/Stock: https://www.arrow.com/en/products/rt0603brd0740kl/yageo?region=nac
footprint RESC1608X55N
pins: 1, 2